# Altium schematic symbol library Q's常用芯片.SchLib: 21 symbols
Pins are listed as number, name and electrical type; pins without a type are passive.

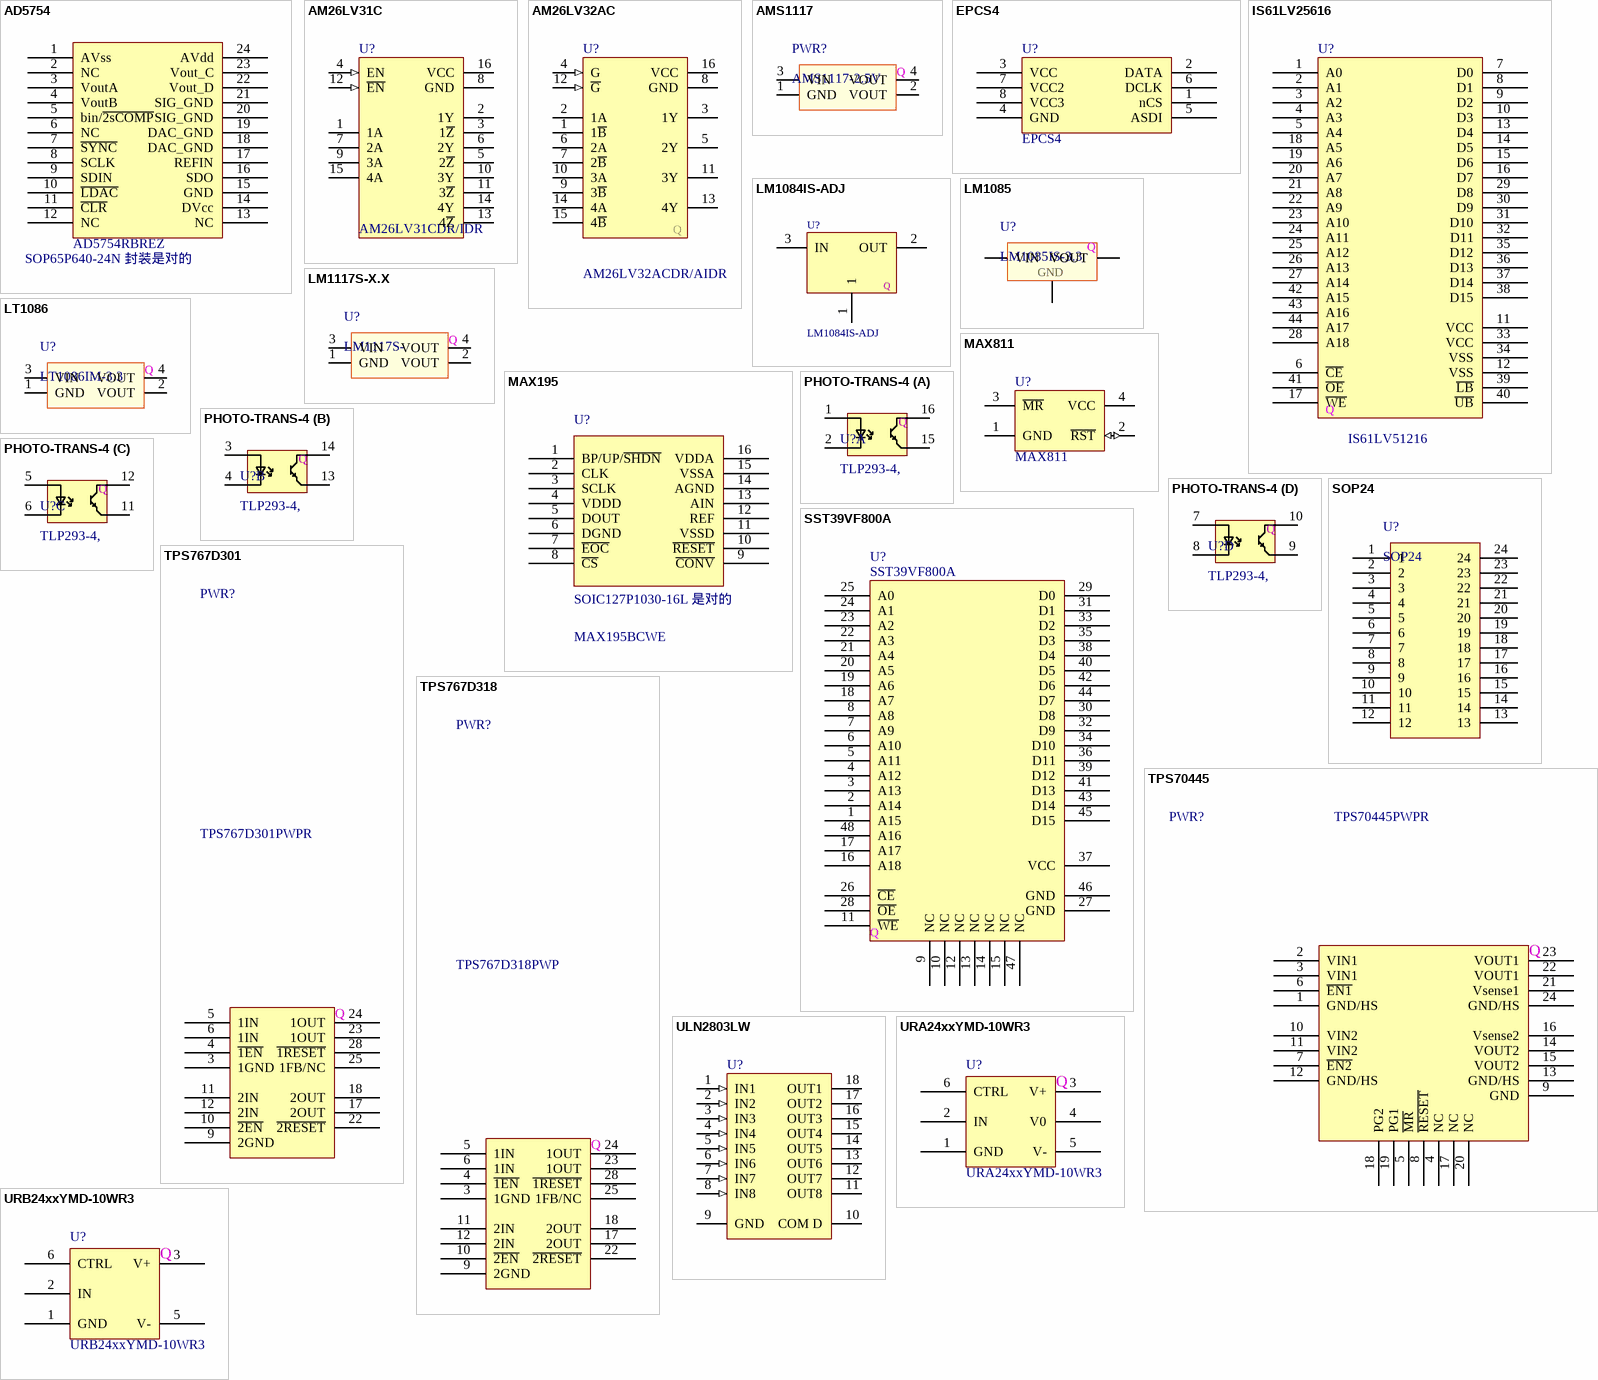
[diagram p0: symbols AD5754 to URB24xxYMD-10WR3]

## AD5754
designator DA?, comment AD5754RBREZ  NOTE: SOP65P640-24N 封装是对的
DA芯片
footprint SOP65P640-24N (SOP, 24-Leads, Body 7.8x4.4mm, Pitch 0.65mm, IPC Medium Density)
pins: 1 AVss, 2 NC, 3 VoutA, 4 VoutB, 5 bin/~{2sCOMP}, 6 NC, 7 ~{SYNC}, 8 SCLK, 9 SDIN, 10 ~{LDAC}, 11 ~{CLR}, 12 NC, 13 NC, 14 DVcc, 15 GND, 16 SDO, 17 REFIN, 18 DAC_GND, 19 DAC_GND, 20 SIG_GND, 21 SIG_GND, 22 Vout_D, 23 Vout_C, 24 AVdd

## AM26LV31C
designator U?, comment AM26LV31CDR/IDR
有源差分芯片，四路差分驱动, 低压版3.3V,认准LV标识。; Published: 15-May-2002; LatestRevisionDate: 13-Apr-2006; LatestRevisionNote: IPC-7351 Footprint Added.; DatasheetVersion: May-1990; PackageVersion: Jan-1998; PackageReference: D016; Publisher: Altium Limited; PackageDescription: 16-Pin Small Outline Integrated Circuit 1.27 mm Pitch; Code_IPC: SOIC127P600-16; ComponentLink1Description: Manufacturer Link; ComponentLink1URL: http://www.ti.com/; ComponentLink2Description: Datasheet; ComponentLink2URL: http://www-s.ti.com/sc/ds/am26ls31.pdf
3D model D016 (16-Pin Small Outline Integrated Circuit 1.27 mm Pitch)
footprint SOIC127P600-16N (SOIC, 16-Leads, Body 9.9x3.9mm, Pitch 1.27mm, IPC Medium Density)
pins: 1 1A, 2 1Y (hiz), 3 1~{Z} (hiz), 4 EN (in), 5 2~{Z} (hiz), 6 2Y (hiz), 7 2A, 8 GND (power), 9 3A, 10 3Y (hiz), 11 3~{Z} (hiz), 12 ~{EN} (in), 13 4~{Z} (hiz), 14 4Y (hiz), 15 4A, 16 VCC (power)

## AM26LV32AC
designator U?, comment AM26LV32ACDR/AIDR
有源差分芯片，四路差分接收，低压版3.3V,认准LV标识。; Note: Inputs have hysteresis (50mV typical).; Published: 15-May-2002; LatestRevisionDate: 13-Apr-2006; LatestRevisionNote: IPC-7351 Footprint Added.; DatasheetVersion: Sep-1986; PackageVersion: Jan-1998; PackageReference: D016; Publisher: Altium Limited; PackageDescription: 16-Pin Small Outline Integrated Circuit 1.27 mm Pitch; Code_IPC: SOIC127P600-16; ComponentLink1Description: Manufacturer Link; ComponentLink1URL: http://www.ti.com/; ComponentLink2Description: Datasheet; ComponentLink2URL: http://www-s.ti.com/sc/ds/am26ls32a.pdf
3D model D016 (16-Pin Small Outline Integrated Circuit 1.27 mm Pitch)
footprint SOIC127P600-16N (SOIC, 16-Leads, Body 9.9x3.9mm, Pitch 1.27mm, IPC Medium Density)
pins: 1 1~{B}, 2 1A, 3 1Y (hiz), 4 G (in), 5 2Y (hiz), 6 2A, 7 2~{B}, 8 GND (power), 9 3~{B}, 10 3A, 11 3Y (hiz), 12 ~{G} (in), 13 4Y (hiz), 14 4A, 15 4~{B}, 16 VCC (power)
text: Q

## AMS1117
designator PWR?, comment AMS1117-2.5V
电源芯片，稳压模块,AMS1117-2.5/3.3/5
footprint SOT223-4N (SOT223, 4-Leads, Body 6.5x3.5mm, Pitch 2.3mm, Lead Span 7mm, IPC Medium Density)
pins: 1 GND, 2 VOUT, 3 VIN, 4 VOUT
text: Q

## EPCS4
designator U?
有源，串口芯片
footprint SOIC127P600-8N (SOIC, 8-Leads, Body 4.9x3.9mm, Pitch 1.27mm, IPC Medium Density)
pins: 1 nCS, 2 DATA, 3 VCC, 4 GND, 5 ASDI, 6 DCLK, 7 VCC2, 8 VCC3

## IS61LV25616
designator U?, comment IS61LV51216
有源，RAM芯片
footprint SOP80P1176-44N (SOP, 44-Leads, Body 18.4x10.16mm, Pitch 0.8mm, IPC Medium Density)
pins: 1 A0, 2 A1, 3 A2, 4 A3, 5 A4, 6 ~{CE}, 7 D0, 8 D1, 9 D2, 10 D3, 11 VCC, 12 VSS, 13 D4, 14 D5, 15 D6, 16 D7, 17 ~{WE}, 18 A5, 19 A6, 20 A7, 21 A8, 22 A9, 23 A10, 24 A11, 25 A12, 26 A13, 27 A14, 28 A18, 29 D8, 30 D9, 31 D10, 32 D11, 33 VCC, 34 VSS, 35 D12, 36 D13, 37 D14, 38 D15, 39 ~{LB}, 40 ~{UB}, 41 ~{OE}, 42 A15, 43 A16, 44 A17
text: Q

## LM1084IS-ADJ
designator U?
5A Low Dropout Possitive Regulators
footprint TO-263
3D model to263 (PCB3D Model)
pins: 1 "Output", 2 OUT (power) "Output", 3 IN (power) "Input"
text: Q

## LM1085
designator U?, comment LM1085IS-3.3
稳压模块,LM1085I/CM-3.3
footprint TO-263
pins: 1 GND, 2 VOUT, 3 VIN, 4 VOUT
text: Q

## LM1117S-X.X
designator U?, comment LM1117S-
电源管理芯片LDO，LM1117S-1.2/1.8/2.5/3.3, 注意不是AMS1117.
footprint SOT223-4N (SOT223, 4-Leads, Body 6.5x3.5mm, Pitch 2.3mm, Lead Span 7mm, IPC Medium Density)
pins: 1 GND, 2 VOUT, 3 VIN, 4 VOUT
text: Q

## LT1086
designator U?, comment LT1086IM-3.3
稳压模块,LT1086I/CM-3.3
footprint TO-263
pins: 1 GND, 2 VOUT, 3 VIN, 4 VOUT
text: Q

## MAX195
designator U?, comment MAX195BCWE  NOTE: SOIC127P1030-16L 是对的
footprint SOIC127P1030-16L (SOIC, 16-Leads, Body 10.3x7.5mm, Pitch 1.27mm, IPC High Density)
pins: 1 BP/UP/~{SHDN}, 2 CLK, 3 SCLK, 4 VDDD, 5 DOUT, 6 DGND, 7 ~{EOC}, 8 ~{CS}, 9 ~{CONV}, 10 ~{RESET}, 11 VSSD, 12 REF, 13 AIN, 14 AGND, 15 VSSA, 16 VDDA

## MAX811
designator U?
Published: *; LatestRevisionDate: *; LatestRevisionNote: *; DatasheetDocument: *; PackageDocument: *; PackageReference: *; Publisher: *; ComponentLink1Description: *; ComponentLink1URL: *; ComponentLink2Description: *; ComponentLink2URL: *
footprint SOT143N (SOT143, 4-Leads, Body 2.9x1.3mm, Pitch 1.9mm, Lead Span 2.5mm, IPC Medium Density)
pins: 1 GND (power), 2 ~{RST} (io), 3 ~{MR}, 4 VCC (power)
2 alternate drawings of the same symbol

## PHOTO-TRANS-4
designator U?, comment TLP293-4,
4路光耦隔离
footprint SOIC127P600-16N (SOIC, 16-Leads, Body 9.9x3.9mm, Pitch 1.27mm, IPC Medium Density)
part A pins: 1 Anode, 2 Cathode, 15 Emitter, 16 Collector
part B pins: 3 Anode, 4 Cathode, 13 Emitter, 14 Collector
part C pins: 5 Anode, 6 Cathode, 11 Emitter, 12 Collector
part D pins: 7 Anode, 8 Cathode, 9 Emitter, 10 Collector
part A text: Q
part B text: Q
part C text: Q
part D text: Q

## SOP24
designator U?
1.27MM
pins: 1, 2, 3, 4, 5, 6, 7, 8, 9, 10, 11, 12, 13, 14, 15, 16, 17, 18, 19, 20, 21, 22, 23, 24

## SST39VF800A
designator U?
有源，flash芯片
footprint TSSOP50P2000-48AN (TSSOP, 48-Leads, Body 12x18.4mm, Pitch 0.5mm, IPC Medium Density)
pins: 1 A15, 2 A14, 3 A13, 4 A12, 5 A11, 6 A10, 7 A9, 8 A8, 9 NC, 10 NC, 11 ~{WE}, 12 NC, 13 NC, 14 NC, 15 NC, 16 A18, 17 A17, 18 A7, 19 A6, 20 A5, 21 A4, 22 A3, 23 A2, 24 A1, 25 A0, 26 ~{CE}, 27 GND, 28 ~{OE}, 29 D0, 30 D8, 31 D1, 32 D9, 33 D2, 34 D10, 35 D3, 36 D11, 37 VCC, 38 D4, 39 D12, 40 D5, 41 D13, 42 D6, 43 D14, 44 D7, 45 D15, 46 GND, 47 NC, 48 A16
text: Q

## TPS767D301
designator PWR?, comment TPS767D301PWPR
电源芯片，Iomax=1A, Vout：1#, 01=1.5~5.5V,18=1.8V,25=2.5V；2#都为3.3V。
footprint SOP65P640-28N - PWP (SOP, 28-Leads, Body 9.7x4.4mm, Pitch 0.65mm, IPC Medium Density)
pins: 1 NC hidden, 2 NC hidden, 3 1GND, 4 ~{1EN}, 5 1IN, 6 1IN, 7 NC hidden, 8 NC hidden, 9 2GND, 10 ~{2EN}, 11 2IN, 12 2IN, 13 NC hidden, 14 NC hidden, 15 NC hidden, 16 NC hidden, 17 2OUT, 18 2OUT, 19 NC hidden, 20 NC hidden, 21 NC hidden, 22 ~{2RESET}, 23 1OUT, 24 1OUT, 25 1FB/NC, 26 NC hidden, 27 NC hidden, 28 ~{1RESET}
text: Q

## TPS767D318
designator PWR?, comment TPS767D318PWP
电源芯片，Iomax=1A, Vout：1#, 1.8V；2#都为3.3V。
footprint SOP65P640-28N - PWP (SOP, 28-Leads, Body 9.7x4.4mm, Pitch 0.65mm, IPC Medium Density)
pins: 1 NC hidden, 2 NC hidden, 3 1GND, 4 ~{1EN}, 5 1IN, 6 1IN, 7 NC hidden, 8 NC hidden, 9 2GND, 10 ~{2EN}, 11 2IN, 12 2IN, 13 NC hidden, 14 NC hidden, 15 NC hidden, 16 NC hidden, 17 2OUT, 18 2OUT, 19 NC hidden, 20 NC hidden, 21 NC hidden, 22 ~{2RESET}, 23 1OUT, 24 1OUT, 25 1FB/NC, 26 NC hidden, 27 NC hidden, 28 ~{1RESET}
text: Q

## TPS70445
designator PWR?, comment TPS70445PWPR
电源芯片，最大电流输出：#1为1A，2#为2A。
footprint SOP65P640-24N - PWP (SOP, 24-Leads, Body 7.8x4.4mm, Pitch 0.65mm, IPC Medium Density)
pins: 1 GND/HS "GND/Heat Sink", 2 VIN1, 3 VIN1, 4 NC, 5 ~{MR}, 6 ~{EN1}, 7 ~{EN2}, 8 ~{RESET}, 9 GND, 10 VIN2, 11 VIN2, 12 GND/HS "GND/Heat Sink", 13 GND/HS "GND/Heat Sink", 14 VOUT2, 15 VOUT2, 16 Vsense2, 17 NC, 18 PG2, 19 PG1, 20 NC, 21 Vsense1, 22 VOUT1, 23 VOUT1, 24 GND/HS "GND/Heat Sink"
text: Q

## ULN2803LW
designator U?
High-Voltage, High-Current Darlington Array; Published: 13-Oct-2000; LatestRevisionDate: 13-Apr-2006; LatestRevisionNote: IPC-7351 Footprint Added.; DatasheetVersion: 1999; PackageReference: LW18; Publisher: Altium Limited; PackageDescription: 18-Pin Small Outline Integrated Circuit 1.27 mm Pitch; Code_JEDEC: MS-013-AB; ComponentLink1Description: Manufacturer Link; ComponentLink1URL: http://www.allegromicro.com/
footprint LW18_M (SOIC, 18-Leads, Body 11.6x7.5mm, Pitch 1.27mm, IPC Low Density)
3D model LW18 (18-Pin Small Outline Integrated Circuit 1.27 mm Pitch)
pins: 1 IN1 (in), 2 IN2 (in), 3 IN3 (in), 4 IN4 (in), 5 IN5 (in), 6 IN6 (in), 7 IN7 (in), 8 IN8 (in), 9 GND (power), 10 COM D, 11 OUT8 (oc), 12 OUT7 (oc), 13 OUT6 (oc), 14 OUT5 (oc), 15 OUT4 (oc), 16 OUT3 (oc), 17 OUT2 (oc), 18 OUT1 (oc)

## URA24xxYMD-10WR3
designator U?
电源芯片，双极性输出，输入24V。
footprint URA24xxYMD-10WR3 (稳压模块)
pins: 1 GND, 2 IN, 3 V+, 4 V0, 5 V-, 6 CTRL
text: Q

## URB24xxYMD-10WR3
designator U?
电源芯片，单极性输出，输入24V。
footprint URB24xxYMD-10WR3 (稳压模块)
pins: 1 GND, 2 IN, 3 V+, 5 V-, 6 CTRL
text: Q